# Altium footprint library 生日礼物V2.PcbLib: 26 footprints (part 1 of 2)
Each footprint in its own frame and in the unit in brackets; x right, y up, seen from the top. Pads: shape width x height; smd on the part's side, far side on the other; paste and mask are expansions set on the pad; w line width, h text height; cw(c..) or ccw(c..) is an arc to the next point about the centre after c.
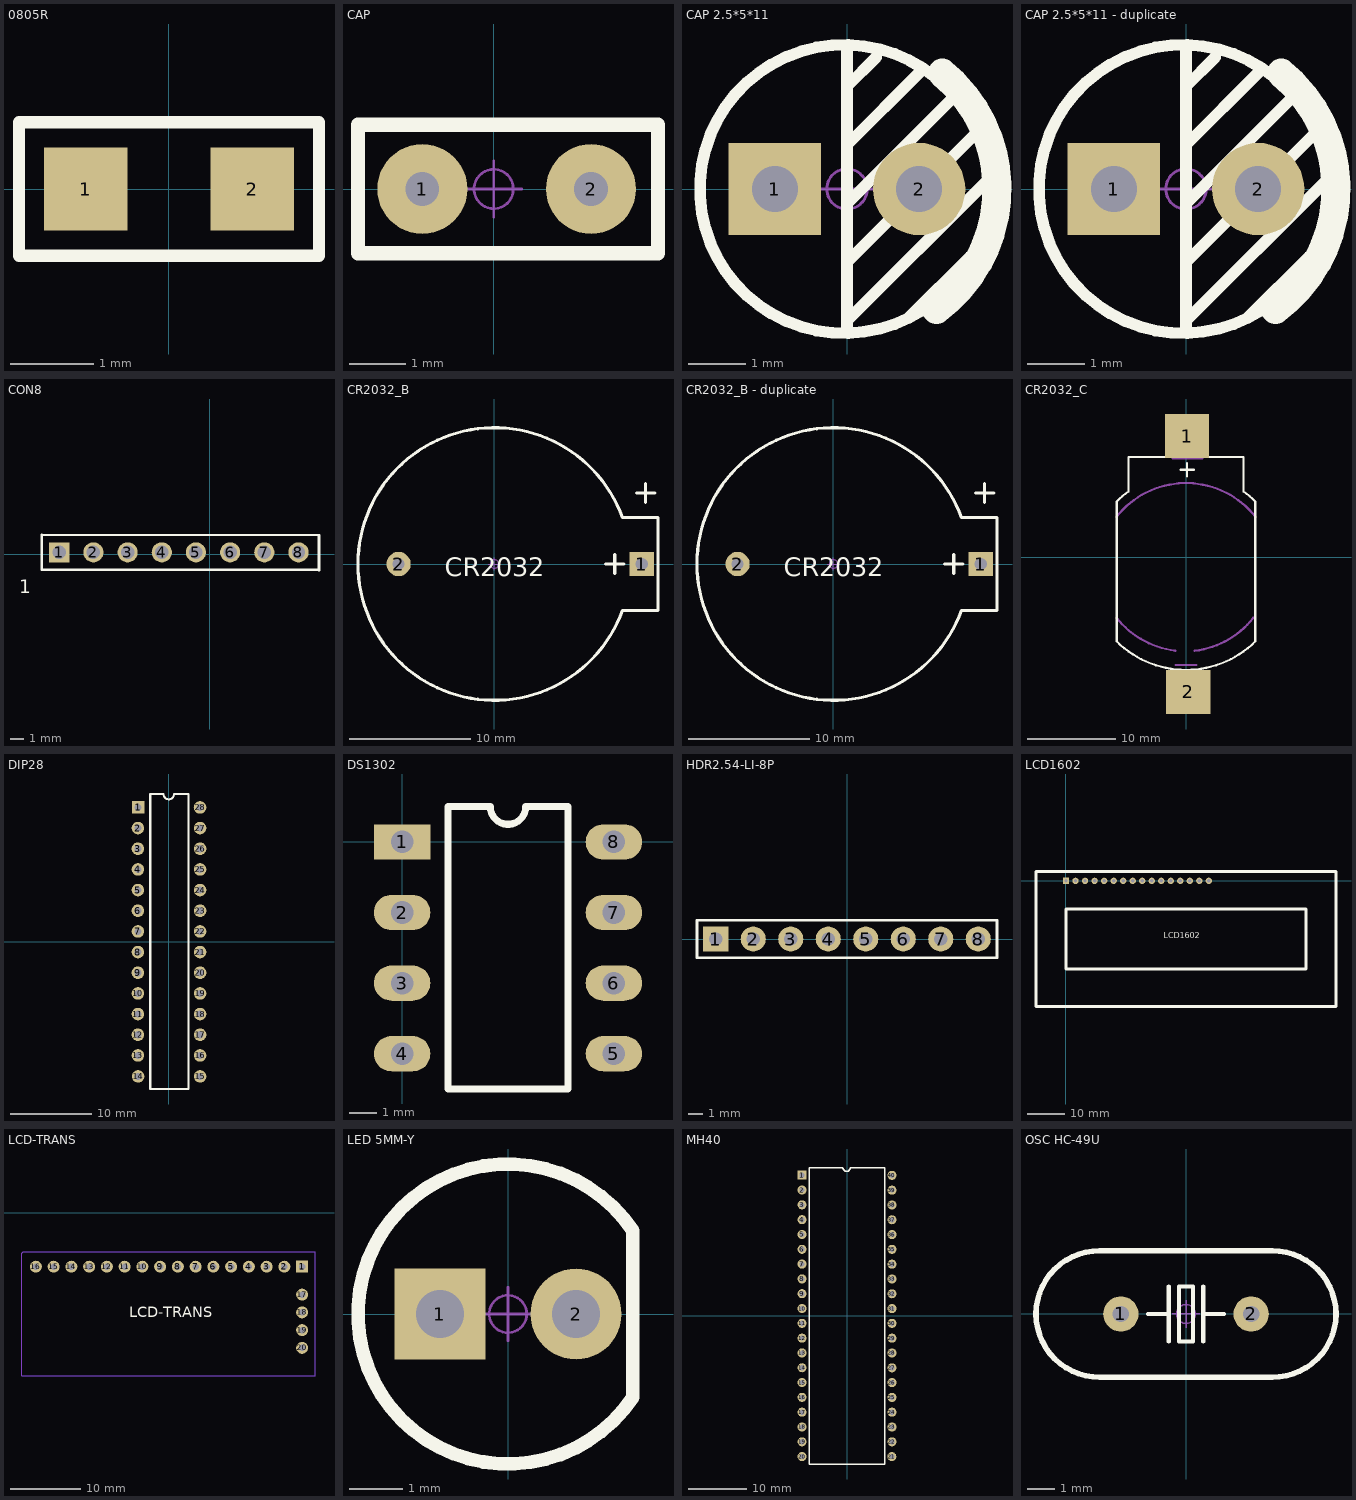
[diagram p0: the footprints below, top view; thin cyan lines are the x and y axes]

## 0805R [mm]
pads (2):
  rect 1x1 smd: 1(-1,0) 2(1,0)
Top Overlay:
  lines w0.15: -1.8,-0.8 -1.8,0.8 1.8,0.8 1.8,-0.8 -1.8,-0.8

## CAP [mm] "瓷片电容，脚距3mm"
pads (2):
  round 1.6 hole 0.6: 1(-1.27,0) 2(1.73,0)
Top Overlay:
  lines w0.254: 1.5,0 2,0 ; -2.413,-1.143 2.921,-1.143 2.921,1.143 -2.413,1.143 -2.413,-1.143
Mechanical 15:
  circle w0.05: c0,0 r0.35
  lines w0.05: -0.5,0 0.5,0 ; 0,-0.5 0,0.5

## CAP 2.5*5*11 [mm] "脚距2.5mm直径5mm高度11mm"
pads (2):
  rect 1.6x1.6 hole 0.8: 1(-1.25,0)
  round 1.6 hole 0.8: 2(1.25,0)
Top Overlay:
  circle w0.2: c-0.05,0 r2.5
  lines w0.2: 0,-2.489 0,2.413 ; 0,-2.286 2.438,0.152 ; 0,-1.27 2.222,0.953 ; 0,-0.254 1.841,1.587 ; 0,0.762 1.27,2.032 ; 0,1.778 0.508,2.286 ; 1.079,-2.222 2.134,-1.168
  lines w0.5: 1.552,-2.086 ccw(c0,0) 1.651,2.008
Mechanical 15:
  circle w0.05: c0,0 r0.35
  lines w0.05: -0.5,0 0.5,0 ; 0,-0.5 0,0.5
3D body "CAP 2.5X5X11.STEP": height 11.03, standoff -3.43, extent -2.5,-2.499 2.51,2.499

## CAP 2.5*5*11 - duplicate [mm] "脚距2.5mm直径5mm高度11mm"
pads (2):
  rect 1.6x1.6 hole 0.8: 1(-1.25,0)
  round 1.6 hole 0.8: 2(1.25,0)
Top Overlay:
  circle w0.2: c-0.05,0 r2.5
  lines w0.2: 0,-2.489 0,2.413 ; 0,-2.286 2.438,0.152 ; 0,-1.27 2.222,0.953 ; 0,-0.254 1.841,1.587 ; 0,0.762 1.27,2.032 ; 0,1.778 0.508,2.286 ; 1.079,-2.222 2.134,-1.168
  lines w0.5: 1.552,-2.086 ccw(c0,0) 1.651,2.008
Mechanical 15:
  circle w0.05: c0,0 r0.35
  lines w0.05: -0.5,0 0.5,0 ; 0,-0.5 0,0.5
3D body "CAP 2.5X5X11.STEP": height 11.03, standoff -3.43, extent -2.5,-2.499 2.51,2.499

## CON8 [mm]
pads (8):
  rect 1.5x1.5 hole 1: 1(-11.176,0.127)
  round 1.5 hole 1: 2(-8.636,0.127) 3(-6.096,0.127) 4(-3.556,0.127) 5(-1.016,0.127) 6(1.524,0.127) 7(4.064,0.127) 8(6.604,0.127)
Top Overlay:
  lines w0.2: 8.128,-1.203 8.128,1.397 -12.476,1.427 -12.476,-1.173 8.128,-1.143
  text "1" at -14.17,-2.9 h1.02

## CR2032_B [mm] "纽扣电池座"
pads (2):
  rect 2x2 hole 1: 1(12.126,0)
  round 2 hole 1: 2(-7.874,0)
Top Overlay:
  lines w0.254: 9.144,0 10.668,0 ; 9.906,-0.762 9.906,0.762 ; 11.684,5.842 13.208,5.842 ; 12.446,5.08 12.446,6.604 ; 10.541,-3.81 cw(c0,0) 10.541,3.81 13.462,3.81 13.462,-3.81 10.541,-3.81
  text "CR2032" at -4.064,-1.016 h1.52
Mechanical 15:
  circle w0.05: c0,0 r0.35
  lines w0.05: -0.5,0 0.5,0 ; 0,-0.5 0,0.5
3D body "CR2032_B.STEP": height 8.75, standoff -3.05, extent -11.1,-11.099 13.3,11.099

## CR2032_B - duplicate [mm] "纽扣电池座"
pads (2):
  rect 2x2 hole 1: 1(12.126,0)
  round 2 hole 1: 2(-7.874,0)
Top Overlay:
  lines w0.254: 9.144,0 10.668,0 ; 9.906,-0.762 9.906,0.762 ; 11.684,5.842 13.208,5.842 ; 12.446,5.08 12.446,6.604 ; 10.541,-3.81 cw(c0,0) 10.541,3.81 13.462,3.81 13.462,-3.81 10.541,-3.81
  text "CR2032" at -4.064,-1.016 h1.52
Mechanical 15:
  circle w0.05: c0,0 r0.35
  lines w0.05: -0.5,0 0.5,0 ; 0,-0.5 0,0.5

## CR2032_C [mm]
pads (2):
  rect 5x5 smd: 1(0.127,13.716) 2(0.254,-15.24)
Top Overlay:
  lines w0.254: -1.956,11.354 -6.5,11.35 -6.5,7.459 ccw(c0,-1.6) -7.85,6.318 -7.85,-9.518 ccw(c0,-1.6) 7.85,-9.518 7.85,6.318 ccw(c0,-1.6) 6.5,7.459 6.5,11.35 1.956,11.354 ; -0.635,9.906 0.889,9.906 ; 0.127,9.144 0.127,10.668
Mechanical 15:
  lines w0.254: -7.862,-6.84 ccw(c-0.012,-0.645) -1.212,-10.573 ; -7.85,4.595 cw(c0,-1.6) 7.85,4.595 ; -1.2,-12.2 1.2,-12.2 ; 0.97,-10.591 ccw(c-0.23,-0.663) 7.62,-6.858 ; -1.534,11.208 -1.534,14.258 1.866,14.258 1.866,11.208 -1.534,11.208

## DIP28 [mil] "28脚300mil直插集成电路（蒜米工坊）"
pads (28):
  rect 61x61 hole 35: 1(-149.24,650.1)
  round 61 hole 35: 2(-150.36,550.19) 3(-150.36,450.29) 4(-150.36,350.39) 5(-150.36,250.48) 6(-150.36,150.58) 7(-150.36,50.68) 8(-150.36,-49.23) 9(-150.36,-149.13) 10(-150.36,-249.04) 11(-150.36,-348.94) 12(-150.36,-448.84) 13(-150.36,-548.75) 14(-149.24,-650.1) 15(150.36,-650.1) 16(150.36,-548.75) 17(150.36,-448.84) 18(150.36,-348.94) 19(150.36,-249.04) 20(150.36,-149.13) 21(150.36,-49.23) 22(150.36,50.68) 23(150.36,150.58) 24(150.36,250.48) 25(150.36,350.39) 26(150.36,450.29) 27(150.36,550.19) 28(149.97,650.1)
Top Overlay:
  lines w10: -26.21,714.29 -90.63,714.29 -90.63,-711.12 93.87,-711.12 93.87,715.28 24.97,715.28 ; -26.01,714.08 ccw(c-1.01,714.08) 23.99,714.08
3D body "DIP28.STEP": height 179.92, standoff -150, extent -153.94,-689.96 153.93,689.97

## DS1302 [mil] "8脚300mil直插集成电路（蒜米工坊）"
pads (8):
  rect 80x50 hole 32: 1(0,0)
  oval 80x50 hole 32: 2(0,-100) 3(0,-200) 4(0,-300) 5(300,-300) 6(300,-200) 7(300,-100) 8(300,0)
Top Overlay:
  lines w10: 65,-350 65,50 125,50 ccw(c150,50) 175,50 235,50 235,-350 65,-350
3D body "DIP8.STEP": height 177.17, standoff -137.8, extent -2.76,-362.6 302.77,62.6

## HDR2.54-LI-8P [mm] "排针，8脚"
pads (8):
  rect 1.7x1.7 hole 0.9: 1(-8.89,0)
  round 1.7 hole 0.9: 2(-6.35,0) 3(-3.81,0) 4(-1.27,0) 5(1.27,0) 6(3.81,0) 7(6.35,0) 8(8.89,0)
Top Overlay:
  lines w0.2: -10.16,-1.27 10.16,-1.27 10.16,1.27 -10.16,1.27 -10.16,-1.27
3D body "HDR2.54-1P.STEP": height 8.5, standoff -3, extent -10.16,-1.27 -7.62,1.27
3D body "HDR2.54-1P.STEP": height 8.5, standoff -3, extent -7.62,-1.27 -5.08,1.27
3D body "HDR2.54-1P.STEP": height 8.5, standoff -3, extent -5.08,-1.27 -2.54,1.27
3D body "HDR2.54-1P.STEP": height 8.5, standoff -3, extent -2.54,-1.27 0,1.27
3D body "HDR2.54-1P.STEP": height 8.5, standoff -3, extent 0,-1.27 2.54,1.27
3D body "HDR2.54-1P.STEP": height 8.5, standoff -3, extent 5.08,-1.27 7.62,1.27
3D body "HDR2.54-1P.STEP": height 8.5, standoff -3, extent 2.54,-1.27 5.08,1.27
3D body "HDR2.54-1P.STEP": height 8.5, standoff -3, extent 7.62,-1.27 10.16,1.27

## LCD1602 [mm] "LCD module 16*2 char"
pads (16):
  rect 1.7x1.7 hole 0.9: 1(0,0)
  round 1.7 hole 0.9: 2(2.54,0) 3(5.08,0) 4(7.62,0) 5(10.16,0) 6(12.7,0) 7(15.24,0) 8(17.78,0) 9(20.32,0) 10(22.86,0) 11(25.4,0) 12(27.94,0) 13(30.48,0) 14(33.02,0) 15(35.56,0) 16(38.1,0)
Top Overlay:
  lines w0.762: -8,-33.5 72,-33.5 72,2.5 -8,2.5 -8,-33.5 ; 0,-23.5 64,-23.5 64,-7.5 0,-7.5 0,-23.5
  text "LCD1602" at 26.036,-15.28 h1.52
3D body: height 0.25, standoff 0, extent -7.996,-33.222 72.004,1.778

## LCD-TRANS [mm] "LCD module 16*2 char"
pads (20):
  rect 1.7x1.7 hole 0.9: 1(80.899,-7.747)
  round 1.7 hole 0.9: 2(78.359,-7.747) 3(75.819,-7.747) 4(73.279,-7.747) 5(70.739,-7.747) 6(68.199,-7.747) 7(65.659,-7.747) 8(63.119,-7.747) 9(60.579,-7.747) 10(58.039,-7.747) 11(55.499,-7.747) 12(52.959,-7.747) 13(50.419,-7.747) 14(47.879,-7.747) 15(45.339,-7.747) 16(42.799,-7.747) 17(80.899,-11.747) 18(80.899,-14.287) 19(80.899,-16.827) 20(80.899,-19.367)
Bottom Layer keep-out:
  lines w0.152: 40.767,-23.368 40.767,-5.842 41.021,-5.588 82.804,-5.588 82.804,-23.368 40.767,-23.368
Top Overlay:
  text "LCD-TRANS" at 56.138,-14.986 h1.52
Bottom Overlay:
  lines w0.762: 40.386,-23.749 40.513,-5.207 83.185,-5.207 83.185,-23.749 ; 40.64,-23.834 83.312,-23.834

## LED 5MM-Y [mm] "黄色5mm直插LED"
pads (2):
  rect 1.7x1.7 hole 0.9: 1(-1.27,0)
  round 1.7 hole 0.9: 2(1.27,0)
Top Overlay:
  lines w0.254: 2.33,-1.553 cw(c0,0) 2.33,1.553 2.33,-1.553
Mechanical 15:
  circle w0.05: c0,0 r0.35
  lines w0.05: -0.5,0 0.5,0 ; 0,-0.5 0,0.5
3D body "LED 5mm玻璃罩.STEP": height 8.75, standoff 0.05, extent -2.85,-2.85 2.454,2.85
3D body "LED 5mm-Y.STEP": height 4.5, standoff -3.45, extent -1.983,-0.795 2.076,0.805

## MH40 [mil] "40脚600mil集成电路插座（蒜米工坊）"
pads (40):
  rect 61x61 hole 35: 1(-303.88,950.19)
  round 61 hole 35: 2(-303.62,850.17) 3(-303.62,750.15) 4(-303.62,650.13) 5(-303.62,550.11) 6(-303.62,450.09) 7(-303.62,350.07) 8(-303.62,250.05) 9(-303.62,150.03) 10(-303.62,50.01) 11(-303.62,-50.01) 12(-303.62,-150.03) 13(-303.62,-250.05) 14(-303.62,-350.07) 15(-303.62,-450.09) 16(-303.62,-550.11) 17(-303.62,-650.13) 18(-303.62,-750.15) 19(-303.62,-850.17) 20(-303.62,-950.19) 21(303.04,-950.19) 22(303.88,-850.21) 23(303.88,-750.23) 24(303.88,-650.25) 25(303.88,-550.28) 26(303.88,-450.3) 27(303.88,-350.32) 28(303.88,-250.34) 29(303.88,-150.36) 30(303.88,-50.39) 31(303.88,49.59) 32(303.88,149.57) 33(303.88,249.55) 34(303.88,349.53) 35(303.88,449.5) 36(303.88,549.48) 37(303.88,649.46) 38(303.88,749.44) 39(303.88,849.42) 40(303.88,949.39)
Top Overlay:
  lines w10: -254.04,-1000.19 -254.04,1001.06 -28.21,1001.06 ccw(c-3.21,1001.06) 21.79,1001.06 253.88,1001.06 253.88,-1000.19 -254.04,-1000.19
3D body "ZIF40-2.STEP": height 188.98, standoff -137.8, extent -347.92,-993.03 345,1003.03

## OSC HC-49U [mm]
pads (2):
  round 1.3 hole 0.6: 1(-2.4,0) 2(2.4,0)
Top Overlay:
  lines w0.152: -1.397,0 -0.635,0 ; -0.635,-1.016 -0.635,1.016 ; 0.635,-1.016 0.635,1.016 ; 0.635,0 1.397,0 ; -0.254,-1.016 -0.254,1.016 0.254,1.016 0.254,-1.016 -0.254,-1.016
  lines w0.203: -3.175,2.325 ccw(c-3.2,0) -3.173,-2.325 3.175,-2.325 ccw(c3.2,0) 3.173,2.325 -3.175,2.325
Mechanical 15:
  circle w0.05: c0,0 r0.35
  lines w0.05: -0.5,0 0.5,0 ; 0,-0.5 0,0.5
3D body "OSC HC-49U.STEP": height 13.95, standoff -3.45, extent -5.525,-2.325 5.525,2.325